# Altium schematic symbol library SMC.SchLib: 1 symbol
Pins are listed as number, name and electrical type; pins without a type are passive.

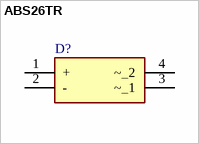
[diagram p0: symbol ABS26TR]

## ABS26TR
designator D?
pins: 1 +, 2 -, 3 ~_1, 4 ~_2